# Altium footprint library SamacSys.PcbLib: 26 footprints (part 2 of 2)
Each footprint in its own frame and in the unit in brackets; x right, y up, seen from the top. Pads: shape width x height; smd on the part's side, far side on the other; paste and mask are expansions set on the pad; w line width, h text height; cw(c..) or ccw(c..) is an arc to the next point about the centre after c.
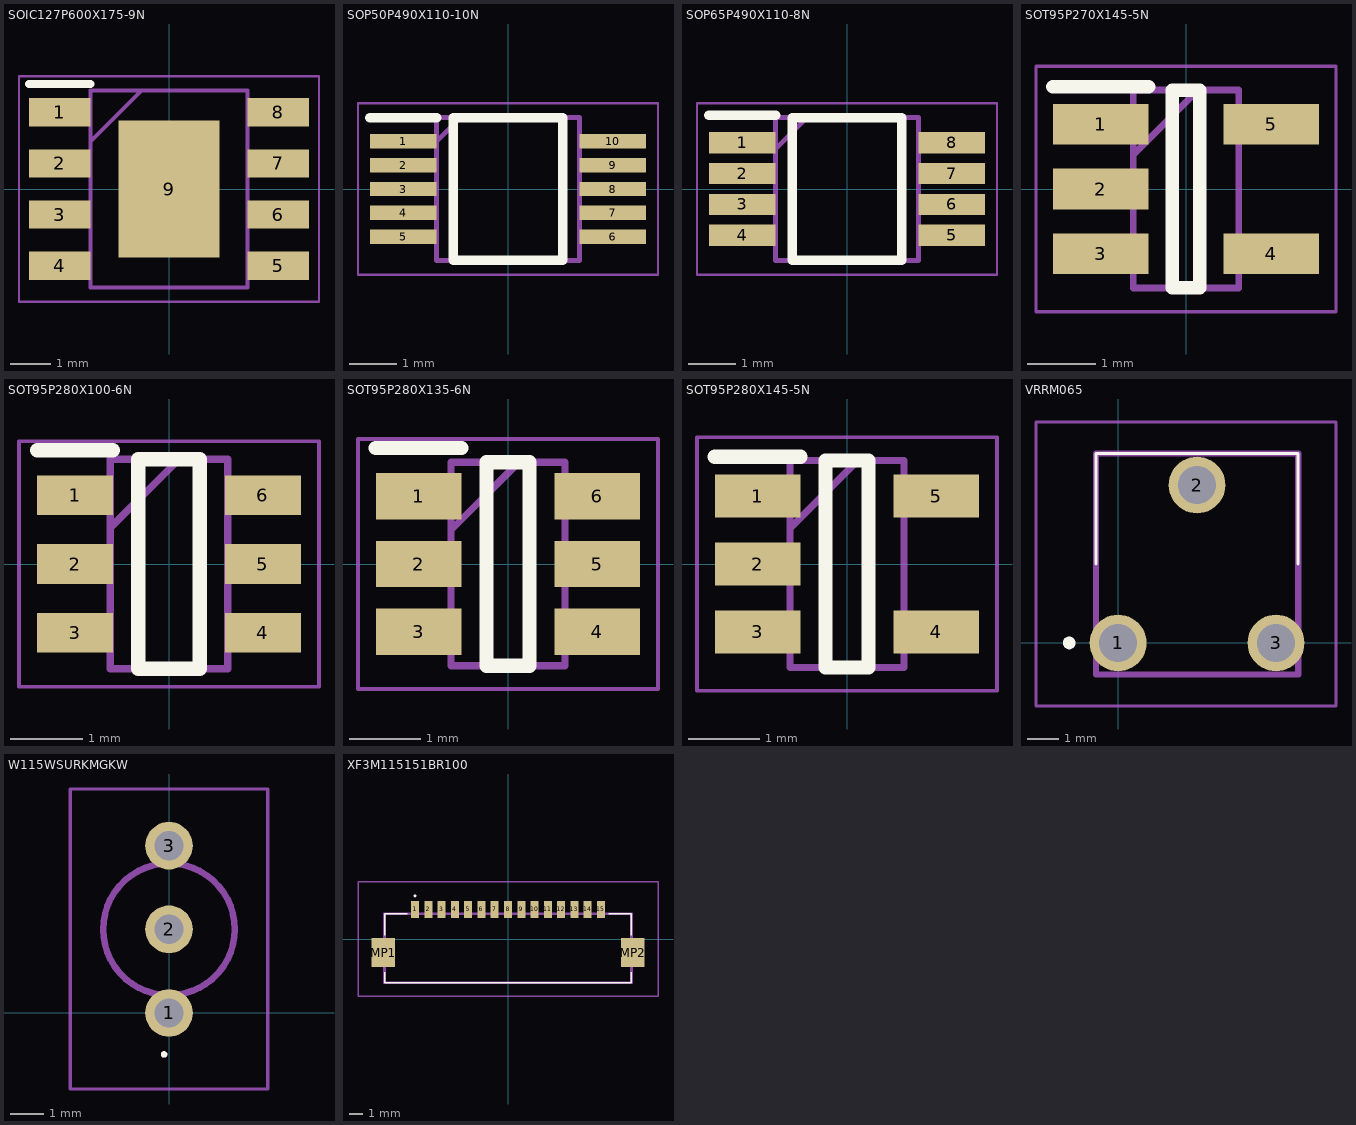
[diagram p1: the footprints below, top view; thin cyan lines are the x and y axes]

## SOIC127P600X175-9N [mm]
pads (9):
  rect 1.525x0.7 smd: 1(-2.712,1.905) 2(-2.712,0.635) 3(-2.712,-0.635) 4(-2.712,-1.905) 5(2.712,-1.905) 6(2.712,-0.635) 7(2.712,0.635) 8(2.712,1.905)
  rect 2.513x3.402 smd: 9(0,0)
Top Overlay:
  lines w0.2: -3.475,2.605 -1.95,2.605
Mechanical 13:
  lines w0.1: -1.95,1.18 -0.68,2.45 ; -1.95,-2.45 -1.95,2.45 1.95,2.45 1.95,-2.45 -1.95,-2.45
Mechanical 15:
  lines w0.05: -3.725,-2.8 -3.725,2.8 3.725,2.8 3.725,-2.8 -3.725,-2.8
3D body "TP4056-42-ESOP8.stp": height 1.75, standoff 0, extent -3,-2.45 3,2.45

## SOP50P490X110-10N [mm]
pads (10):
  rect 1.4x0.3 smd: 1(-2.2,1) 2(-2.2,0.5) 3(-2.2,0) 4(-2.2,-0.5) 5(-2.2,-1) 6(2.2,-1) 7(2.2,-0.5) 8(2.2,0) 9(2.2,0.5) 10(2.2,1)
Top Overlay:
  lines w0.2: -2.9,1.5 -1.5,1.5 ; -1.15,-1.5 -1.15,1.5 1.15,1.5 1.15,-1.5 -1.15,-1.5
Mechanical 13:
  lines w0.1: -1.5,1 -1,1.5 ; -1.5,-1.5 -1.5,1.5 1.5,1.5 1.5,-1.5 -1.5,-1.5
Mechanical 15:
  lines w0.05: -3.15,-1.8 -3.15,1.8 3.15,1.8 3.15,-1.8 -3.15,-1.8
3D body "ADS1115IDGST.stp": height 1.1, standoff 0, extent -2.463,-1.5 2.463,1.5

## SOP65P490X110-8N [mm]
pads (8):
  rect 1.4x0.45 smd: 1(-2.2,0.975) 2(-2.2,0.325) 3(-2.2,-0.325) 4(-2.2,-0.975) 5(2.2,-0.975) 6(2.2,-0.325) 7(2.2,0.325) 8(2.2,0.975)
Top Overlay:
  lines w0.2: -2.9,1.55 -1.5,1.55 ; -1.15,-1.5 -1.15,1.5 1.15,1.5 1.15,-1.5 -1.15,-1.5
Mechanical 13:
  lines w0.1: -1.5,0.85 -0.85,1.5 ; -1.5,-1.5 -1.5,1.5 1.5,1.5 1.5,-1.5 -1.5,-1.5
Mechanical 15:
  lines w0.05: -3.15,-1.8 -3.15,1.8 3.15,1.8 3.15,-1.8 -3.15,-1.8
3D body "OPA2376AIDGKR.stp": height 1.1, standoff 0, extent -2.45,-1.5 2.45,1.5

## SOT95P270X145-5N [mm]
pads (5):
  rect 1.4x0.6 smd: 1(-1.25,0.95) 2(-1.25,0) 3(-1.25,-0.95) 4(1.25,-0.95) 5(1.25,0.95)
Top Overlay:
  lines w0.2: -1.95,1.5 -0.55,1.5 ; -0.2,-1.45 -0.2,1.45 0.2,1.45 0.2,-1.45 -0.2,-1.45
Mechanical 13:
  lines w0.1: -0.775,0.5 0.175,1.45 ; -0.775,-1.45 -0.775,1.45 0.775,1.45 0.775,-1.45 -0.775,-1.45
Mechanical 15:
  lines w0.05: -2.2,-1.8 -2.2,1.8 2.2,1.8 2.2,-1.8 -2.2,-1.8
3D body "MCP73831T-2ACI_OT.stp": height 1.45, standoff 0, extent -1.35,-1.45 1.35,1.45

## SOT95P280X100-6N [mm]
pads (6):
  rect 1.05x0.55 smd: 1(-1.3,0.95) 2(-1.3,0) 3(-1.3,-0.95) 4(1.3,-0.95) 5(1.3,0) 6(1.3,0.95)
Top Overlay:
  lines w0.2: -1.825,1.575 -0.775,1.575 ; -0.425,-1.45 -0.425,1.45 0.425,1.45 0.425,-1.45 -0.425,-1.45
Mechanical 13:
  lines w0.1: -0.812,0.5 0.138,1.45 ; -0.812,-1.45 -0.812,1.45 0.812,1.45 0.812,-1.45 -0.812,-1.45
Mechanical 15:
  lines w0.05: -2.075,-1.7 -2.075,1.7 2.075,1.7 2.075,-1.7 -2.075,-1.7
3D body "LTC1928ES6-5#TRMPBF.stp": height 1, standoff 0, extent -1.4,-1.45 1.4,1.45

## SOT95P280X135-6N [mm]
pads (6):
  rect 1.2x0.65 smd: 1(-1.25,0.95) 2(-1.25,0) 3(-1.25,-0.95) 4(1.25,-0.95) 5(1.25,0) 6(1.25,0.95)
Top Overlay:
  lines w0.2: -1.85,1.625 -0.65,1.625 ; -0.3,-1.425 -0.3,1.425 0.3,1.425 0.3,-1.425 -0.3,-1.425
Mechanical 13:
  lines w0.1: -0.8,0.475 0.15,1.425 ; -0.8,-1.425 -0.8,1.425 0.8,1.425 0.8,-1.425 -0.8,-1.425
Mechanical 15:
  lines w0.05: -2.1,-1.75 -2.1,1.75 2.1,1.75 2.1,-1.75 -2.1,-1.75
3D body "DW01A-G.stp": height 1.35, standoff 0, extent -1.4,-1.425 1.4,1.425

## SOT95P280X145-5N [mm]
pads (5):
  rect 1.2x0.6 smd: 1(-1.25,0.95) 2(-1.25,0) 3(-1.25,-0.95) 4(1.25,-0.95) 5(1.25,0.95)
Top Overlay:
  lines w0.2: -1.85,1.5 -0.65,1.5 ; -0.3,-1.45 0.3,-1.45 0.3,1.45 -0.3,1.45 -0.3,-1.45
Mechanical 13:
  lines w0.1: -0.8,0.5 0.15,1.45 ; -0.8,-1.45 0.8,-1.45 0.8,1.45 -0.8,1.45 -0.8,-1.45
Mechanical 15:
  lines w0.05: -2.1,-1.775 2.1,-1.775 2.1,1.775 -2.1,1.775 -2.1,-1.775
3D body "LMP7707MF_NOPB.stp": height 1.2, standoff 0, extent -1.4,-1.45 1.4,1.45

## VRRM065 [mm]
pads (3):
  round 1.8 hole 1.2: 1(0,0) 2(2.5,5) 3(5,0)
Top Overlay:
  lines w0.1: -0.7,2.5 -0.7,6 5.7,6 5.7,2.5
  lines w0.3: -1.6,0 ccw(c-1.55,0) -1.5,0 ccw(c-1.55,0) -1.6,0
Mechanical 13:
  lines w0.2: -0.7,-1 -0.7,6 5.7,6 5.7,-1 -0.7,-1
Mechanical 15:
  lines w0.1: -2.6,-2 -2.6,7 6.9,7 6.9,-2 -2.6,-2
3D body "VR_RM065.stp": height 7.6, standoff -5, extent -0.7,-1 5.7,6

## W115WSURKMGKW [mm]
pads (3):
  round 1.445 hole 0.889: 1(0,0) 2(0,2.54) 3(0,5.08)
Top Overlay:
  lines w0.1: -0.2,-1.26 cw(c-0.15,-1.26) -0.1,-1.26 cw(c-0.15,-1.26) -0.2,-1.26
Mechanical 13:
  lines w0.2: -2,2.54 cw(c0,2.54) 2,2.54 cw(c0,2.54) -2,2.54
Mechanical 15:
  lines w0.1: -3,-2.31 -3,6.802 3,6.802 3,-2.31 -3,-2.31
3D body "W115WSURKMGKW.stp": height 7.2, standoff -5, extent -2,-0.344 2,5.424

## XF3M115151BR100 [mm]
pads (17):
  rect 0.6x1.3 smd: 1(-7,2.225) 2(-6,2.225) 3(-5,2.225) 4(-4,2.225) 5(-3,2.225) 6(-2,2.225) 7(-1,2.225) 8(0,2.225) 9(1,2.225) 10(2,2.225) 11(3,2.225) 12(4,2.225) 13(5,2.225) 14(6,2.225) 15(7,2.225)
  rect 1.8x2.2 smd: MP1(-9.4,-1.025) MP2(9.4,-1.025)
Top Overlay:
  lines w0.1: -9.3,-2.5 -9.3,-3.3 9.3,-3.3 9.3,-2.5 ; -9.3,0.3 -9.3,1.9 -7.6,1.9 ; 7.6,1.9 9.3,1.9 9.3,0.3 ; -7,3.2 cw(c-7,3.25) -7,3.3 cw(c-7,3.25) -7,3.2
Mechanical 13:
  lines w0.2: -9.3,-3.3 9.3,-3.3 9.3,1.9 -9.3,1.9 -9.3,-3.3
Mechanical 15:
  lines w0.1: -11.3,-4.3 11.3,-4.3 11.3,4.3 -11.3,4.3 -11.3,-4.3
3D body "XF3M_1_-1515-1B-R100.stp": height 3.23, standoff 0, extent -10.12,-3.3 10.12,2.815